# Altium footprint library QFP_Rect_65P_Side_L.PcbLib: 6 footprints
Each footprint in its own frame and in the unit in brackets; x right, y up, seen from the top. Pads: shape width x height; smd on the part's side, far side on the other; paste and mask are expansions set on the pad; w line width, h text height; cw(c..) or ccw(c..) is an arc to the next point about the centre after c.
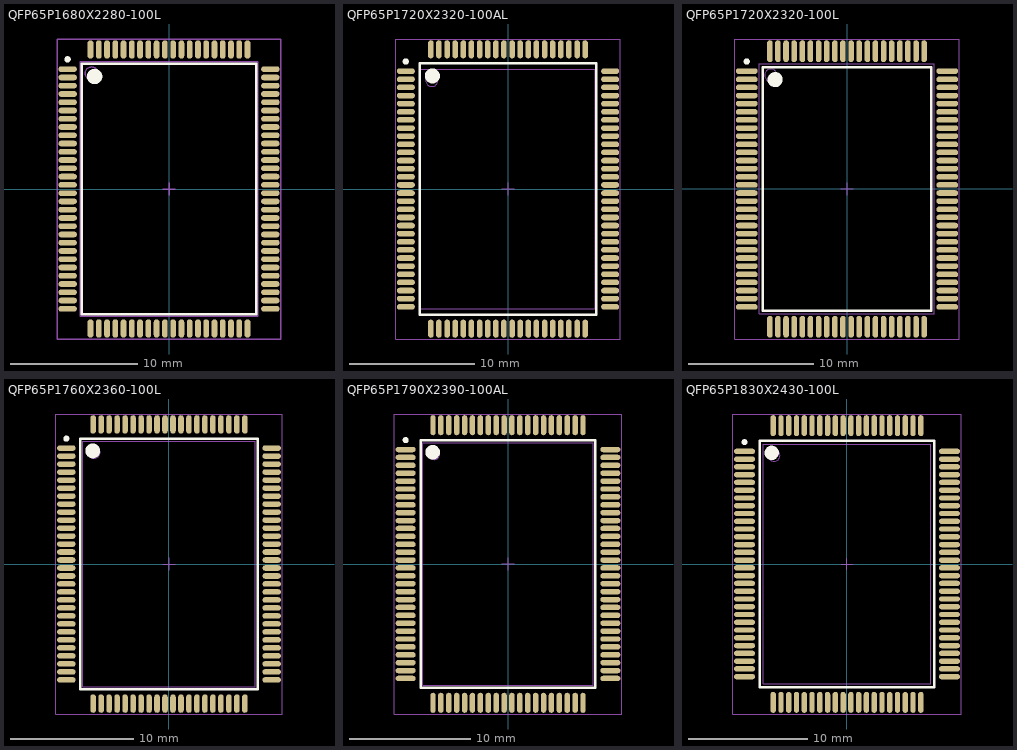
[diagram p0: the footprints below, top view; thin cyan lines are the x and y axes]

## QFP65P1680X2280-100L [mm] "100-Pin Quad Flat Pack Rectangular 0.65 mm Pitch"
height 3.05
pads (100):
  oval 1.45x0.45 smd: 1(-7.975,9.425) 2(-7.975,8.775) 3(-7.975,8.125) 4(-7.975,7.475) 5(-7.975,6.825) 6(-7.975,6.175) 7(-7.975,5.525) 8(-7.975,4.875) 9(-7.975,4.225) 10(-7.975,3.575) 11(-7.975,2.925) 12(-7.975,2.275) 13(-7.975,1.625) 14(-7.975,0.975) 15(-7.975,0.325) 16(-7.975,-0.325) 17(-7.975,-0.975) 18(-7.975,-1.625) 19(-7.975,-2.275) 20(-7.975,-2.925) 21(-7.975,-3.575) 22(-7.975,-4.225) 23(-7.975,-4.875) 24(-7.975,-5.525) 25(-7.975,-6.175) 26(-7.975,-6.825) 27(-7.975,-7.475) 28(-7.975,-8.125) 29(-7.975,-8.775) 30(-7.975,-9.425) 51(7.975,-9.425) 52(7.975,-8.775) 53(7.975,-8.125) 54(7.975,-7.475) 55(7.975,-6.825) 56(7.975,-6.175) 57(7.975,-5.525) 58(7.975,-4.875) 59(7.975,-4.225) 60(7.975,-3.575) 61(7.975,-2.925) 62(7.975,-2.275) 63(7.975,-1.625) 64(7.975,-0.975) 65(7.975,-0.325) 66(7.975,0.325) 67(7.975,0.975) 68(7.975,1.625) 69(7.975,2.275) 70(7.975,2.925) 71(7.975,3.575) 72(7.975,4.225) 73(7.975,4.875) 74(7.975,5.525) 75(7.975,6.175) 76(7.975,6.825) 77(7.975,7.475) 78(7.975,8.125) 79(7.975,8.775) 80(7.975,9.425)
  oval 0.45x1.45 smd: 31(-6.175,-10.975) 32(-5.525,-10.975) 33(-4.875,-10.975) 34(-4.225,-10.975) 35(-3.575,-10.975) 36(-2.925,-10.975) 37(-2.275,-10.975) 38(-1.625,-10.975) 39(-0.975,-10.975) 40(-0.325,-10.975) 41(0.325,-10.975) 42(0.975,-10.975) 43(1.625,-10.975) 44(2.275,-10.975) 45(2.925,-10.975) 46(3.575,-10.975) 47(4.225,-10.975) 48(4.875,-10.975) 49(5.525,-10.975) 50(6.175,-10.975) 81(6.175,10.975) 82(5.525,10.975) 83(4.875,10.975) 84(4.225,10.975) 85(3.575,10.975) 86(2.925,10.975) 87(2.275,10.975) 88(1.625,10.975) 89(0.975,10.975) 90(0.325,10.975) 91(-0.325,10.975) 92(-0.975,10.975) 93(-1.625,10.975) 94(-2.275,10.975) 95(-2.925,10.975) 96(-3.575,10.975) 97(-4.225,10.975) 98(-4.875,10.975) 99(-5.525,10.975) 100(-6.175,10.975)
Top Overlay:
  circle w0.6: c-5.85,8.85 r0.3
  circle w0.25: c-7.975,10.2 r0.125
  lines w0.2: -6.85,-9.85 6.85,-9.85 6.85,9.85 -6.85,9.85 -6.85,-9.85
Mechanical 13:
  circle w0.1: c-6.1,9.1 r0.5
  lines w0.1: -7,-10 7,-10 7,10 -7,10 -7,-10
Mechanical 15:
  lines w0.1: -0.5,0 0.5,0 ; 0,-0.5 0,0.5 ; -8.8,-11.8 8.8,-11.8 8.8,11.8 -8.8,11.8 -8.8,-11.8
3D body: height 3.05, standoff 0, extent -7,-10 7,10

## QFP65P1720X2320-100AL [mm] "QFP, 100-Leads, Body 20x14mm, Pitch 0.65mm, IPC High Density"
height 3.22
pads (100):
  oval 1.45x0.45 smd: 1(-8.175,9.425) 2(-8.175,8.775) 3(-8.175,8.125) 4(-8.175,7.475) 5(-8.175,6.825) 6(-8.175,6.175) 7(-8.175,5.525) 8(-8.175,4.875) 9(-8.175,4.225) 10(-8.175,3.575) 11(-8.175,2.925) 12(-8.175,2.275) 13(-8.175,1.625) 14(-8.175,0.975) 15(-8.175,0.325) 16(-8.175,-0.325) 17(-8.175,-0.975) 18(-8.175,-1.625) 19(-8.175,-2.275) 20(-8.175,-2.925) 21(-8.175,-3.575) 22(-8.175,-4.225) 23(-8.175,-4.875) 24(-8.175,-5.525) 25(-8.175,-6.175) 26(-8.175,-6.825) 27(-8.175,-7.475) 28(-8.175,-8.125) 29(-8.175,-8.775) 30(-8.175,-9.425) 51(8.175,-9.425) 52(8.175,-8.775) 53(8.175,-8.125) 54(8.175,-7.475) 55(8.175,-6.825) 56(8.175,-6.175) 57(8.175,-5.525) 58(8.175,-4.875) 59(8.175,-4.225) 60(8.175,-3.575) 61(8.175,-2.925) 62(8.175,-2.275) 63(8.175,-1.625) 64(8.175,-0.975) 65(8.175,-0.325) 66(8.175,0.325) 67(8.175,0.975) 68(8.175,1.625) 69(8.175,2.275) 70(8.175,2.925) 71(8.175,3.575) 72(8.175,4.225) 73(8.175,4.875) 74(8.175,5.525) 75(8.175,6.175) 76(8.175,6.825) 77(8.175,7.475) 78(8.175,8.125) 79(8.175,8.775) 80(8.175,9.425)
  oval 0.45x1.45 smd: 31(-6.175,-11.175) 32(-5.525,-11.175) 33(-4.875,-11.175) 34(-4.225,-11.175) 35(-3.575,-11.175) 36(-2.925,-11.175) 37(-2.275,-11.175) 38(-1.625,-11.175) 39(-0.975,-11.175) 40(-0.325,-11.175) 41(0.325,-11.175) 42(0.975,-11.175) 43(1.625,-11.175) 44(2.275,-11.175) 45(2.925,-11.175) 46(3.575,-11.175) 47(4.225,-11.175) 48(4.875,-11.175) 49(5.525,-11.175) 50(6.175,-11.175) 81(6.175,11.175) 82(5.525,11.175) 83(4.875,11.175) 84(4.225,11.175) 85(3.575,11.175) 86(2.925,11.175) 87(2.275,11.175) 88(1.625,11.175) 89(0.975,11.175) 90(0.325,11.175) 91(-0.325,11.175) 92(-0.975,11.175) 93(-1.625,11.175) 94(-2.275,11.175) 95(-2.925,11.175) 96(-3.575,11.175) 97(-4.225,11.175) 98(-4.875,11.175) 99(-5.525,11.175) 100(-6.175,11.175)
Top Overlay:
  circle w0.6: c-6.05,9.05 r0.3
  circle w0.25: c-8.175,10.2 r0.125
  lines w0.2: -7.05,-10.05 7.05,-10.05 7.05,10.05 -7.05,10.05 -7.05,-10.05
Mechanical 13:
  circle w0.1: c-6.1,8.7 r0.5
  lines w0.1: -7,-9.6 7,-9.6 7,9.6 -7,9.6 -7,-9.6
Mechanical 15:
  lines w0.1: -0.5,0 0.5,0 ; 0,-0.5 0,0.5 ; -9,-12 9,-12 9,12 -9,12 -9,-12
3D body: height 3.22, standoff 0, extent -7,-9.6 7,9.6

## QFP65P1720X2320-100L [mm] "QFP, 100-Leads, Body 20x14mm, Pitch 0.65mm, IPC High Density"
height 3.4
pads (100):
  oval 1.75x0.45 smd: 1(-8.025,9.425) 2(-8.025,8.775) 3(-8.025,8.125) 4(-8.025,7.475) 5(-8.025,6.825) 6(-8.025,6.175) 7(-8.025,5.525) 8(-8.025,4.875) 9(-8.025,4.225) 10(-8.025,3.575) 11(-8.025,2.925) 12(-8.025,2.275) 13(-8.025,1.625) 14(-8.025,0.975) 15(-8.025,0.325) 16(-8.025,-0.325) 17(-8.025,-0.975) 18(-8.025,-1.625) 19(-8.025,-2.275) 20(-8.025,-2.925) 21(-8.025,-3.575) 22(-8.025,-4.225) 23(-8.025,-4.875) 24(-8.025,-5.525) 25(-8.025,-6.175) 26(-8.025,-6.825) 27(-8.025,-7.475) 28(-8.025,-8.125) 29(-8.025,-8.775) 30(-8.025,-9.425) 51(8.025,-9.425) 52(8.025,-8.775) 53(8.025,-8.125) 54(8.025,-7.475) 55(8.025,-6.825) 56(8.025,-6.175) 57(8.025,-5.525) 58(8.025,-4.875) 59(8.025,-4.225) 60(8.025,-3.575) 61(8.025,-2.925) 62(8.025,-2.275) 63(8.025,-1.625) 64(8.025,-0.975) 65(8.025,-0.325) 66(8.025,0.325) 67(8.025,0.975) 68(8.025,1.625) 69(8.025,2.275) 70(8.025,2.925) 71(8.025,3.575) 72(8.025,4.225) 73(8.025,4.875) 74(8.025,5.525) 75(8.025,6.175) 76(8.025,6.825) 77(8.025,7.475) 78(8.025,8.125) 79(8.025,8.775) 80(8.025,9.425)
  oval 0.45x1.75 smd: 31(-6.175,-11.025) 32(-5.525,-11.025) 33(-4.875,-11.025) 34(-4.225,-11.025) 35(-3.575,-11.025) 36(-2.925,-11.025) 37(-2.275,-11.025) 38(-1.625,-11.025) 39(-0.975,-11.025) 40(-0.325,-11.025) 41(0.325,-11.025) 42(0.975,-11.025) 43(1.625,-11.025) 44(2.275,-11.025) 45(2.925,-11.025) 46(3.575,-11.025) 47(4.225,-11.025) 48(4.875,-11.025) 49(5.525,-11.025) 50(6.175,-11.025) 81(6.175,11.025) 82(5.525,11.025) 83(4.875,11.025) 84(4.225,11.025) 85(3.575,11.025) 86(2.925,11.025) 87(2.275,11.025) 88(1.625,11.025) 89(0.975,11.025) 90(0.325,11.025) 91(-0.325,11.025) 92(-0.975,11.025) 93(-1.625,11.025) 94(-2.275,11.025) 95(-2.925,11.025) 96(-3.575,11.025) 97(-4.225,11.025) 98(-4.875,11.025) 99(-5.525,11.025) 100(-6.175,11.025)
Top Overlay:
  circle w0.6: c-5.75,8.75 r0.3
  circle w0.25: c-8.025,10.2 r0.125
  lines w0.2: -6.75,-9.75 6.75,-9.75 6.75,9.75 -6.75,9.75 -6.75,-9.75
Mechanical 13:
  circle w0.1: c-6.1,9.1 r0.5
  lines w0.1: -7,-10 7,-10 7,10 -7,10 -7,-10
Mechanical 15:
  lines w0.1: -0.5,0 0.5,0 ; 0,-0.5 0,0.5 ; -9,-12 9,-12 9,12 -9,12 -9,-12
3D body: height 3.4, standoff 0, extent -7,-10 7,10

## QFP65P1760X2360-100L [mm] "QFP, 100-Leads, Body 20x14mm, Pitch 0.65mm, IPC High Density"
height 3.27
pads (100):
  oval 1.5x0.45 smd: 1(-8.35,9.425) 2(-8.35,8.775) 3(-8.35,8.125) 4(-8.35,7.475) 5(-8.35,6.825) 6(-8.35,6.175) 7(-8.35,5.525) 8(-8.35,4.875) 9(-8.35,4.225) 10(-8.35,3.575) 11(-8.35,2.925) 12(-8.35,2.275) 13(-8.35,1.625) 14(-8.35,0.975) 15(-8.35,0.325) 16(-8.35,-0.325) 17(-8.35,-0.975) 18(-8.35,-1.625) 19(-8.35,-2.275) 20(-8.35,-2.925) 21(-8.35,-3.575) 22(-8.35,-4.225) 23(-8.35,-4.875) 24(-8.35,-5.525) 25(-8.35,-6.175) 26(-8.35,-6.825) 27(-8.35,-7.475) 28(-8.35,-8.125) 29(-8.35,-8.775) 30(-8.35,-9.425) 51(8.35,-9.425) 52(8.35,-8.775) 53(8.35,-8.125) 54(8.35,-7.475) 55(8.35,-6.825) 56(8.35,-6.175) 57(8.35,-5.525) 58(8.35,-4.875) 59(8.35,-4.225) 60(8.35,-3.575) 61(8.35,-2.925) 62(8.35,-2.275) 63(8.35,-1.625) 64(8.35,-0.975) 65(8.35,-0.325) 66(8.35,0.325) 67(8.35,0.975) 68(8.35,1.625) 69(8.35,2.275) 70(8.35,2.925) 71(8.35,3.575) 72(8.35,4.225) 73(8.35,4.875) 74(8.35,5.525) 75(8.35,6.175) 76(8.35,6.825) 77(8.35,7.475) 78(8.35,8.125) 79(8.35,8.775) 80(8.35,9.425)
  oval 0.45x1.5 smd: 31(-6.175,-11.35) 32(-5.525,-11.35) 33(-4.875,-11.35) 34(-4.225,-11.35) 35(-3.575,-11.35) 36(-2.925,-11.35) 37(-2.275,-11.35) 38(-1.625,-11.35) 39(-0.975,-11.35) 40(-0.325,-11.35) 41(0.325,-11.35) 42(0.975,-11.35) 43(1.625,-11.35) 44(2.275,-11.35) 45(2.925,-11.35) 46(3.575,-11.35) 47(4.225,-11.35) 48(4.875,-11.35) 49(5.525,-11.35) 50(6.175,-11.35) 81(6.175,11.35) 82(5.525,11.35) 83(4.875,11.35) 84(4.225,11.35) 85(3.575,11.35) 86(2.925,11.35) 87(2.275,11.35) 88(1.625,11.35) 89(0.975,11.35) 90(0.325,11.35) 91(-0.325,11.35) 92(-0.975,11.35) 93(-1.625,11.35) 94(-2.275,11.35) 95(-2.925,11.35) 96(-3.575,11.35) 97(-4.225,11.35) 98(-4.875,11.35) 99(-5.525,11.35) 100(-6.175,11.35)
Top Overlay:
  circle w0.6: c-6.2,9.2 r0.3
  circle w0.25: c-8.35,10.2 r0.125
  lines w0.2: -7.2,-10.2 7.2,-10.2 7.2,10.2 -7.2,10.2 -7.2,-10.2
Mechanical 13:
  circle w0.1: c-6.1,9.1 r0.5
  lines w0.1: -7,-10 7,-10 7,10 -7,10 -7,-10
Mechanical 15:
  lines w0.1: -0.5,0 0.5,0 ; 0,-0.5 0,0.5 ; -9.2,-12.2 9.2,-12.2 9.2,12.2 -9.2,12.2 -9.2,-12.2
3D body: height 3.27, standoff 0, extent -7,-10 7,10

## QFP65P1790X2390-100AL [mm] "QFP, 100-Leads, Body 20x14mm, Pitch 0.65mm, IPC High Density"
height 3.3
pads (100):
  oval 1.65x0.45 smd: 1(-8.425,9.425) 2(-8.425,8.775) 3(-8.425,8.125) 4(-8.425,7.475) 5(-8.425,6.825) 6(-8.425,6.175) 7(-8.425,5.525) 8(-8.425,4.875) 9(-8.425,4.225) 10(-8.425,3.575) 11(-8.425,2.925) 12(-8.425,2.275) 13(-8.425,1.625) 14(-8.425,0.975) 15(-8.425,0.325) 16(-8.425,-0.325) 17(-8.425,-0.975) 18(-8.425,-1.625) 19(-8.425,-2.275) 20(-8.425,-2.925) 21(-8.425,-3.575) 22(-8.425,-4.225) 23(-8.425,-4.875) 24(-8.425,-5.525) 25(-8.425,-6.175) 26(-8.425,-6.825) 27(-8.425,-7.475) 28(-8.425,-8.125) 29(-8.425,-8.775) 30(-8.425,-9.425) 51(8.425,-9.425) 52(8.425,-8.775) 53(8.425,-8.125) 54(8.425,-7.475) 55(8.425,-6.825) 56(8.425,-6.175) 57(8.425,-5.525) 58(8.425,-4.875) 59(8.425,-4.225) 60(8.425,-3.575) 61(8.425,-2.925) 62(8.425,-2.275) 63(8.425,-1.625) 64(8.425,-0.975) 65(8.425,-0.325) 66(8.425,0.325) 67(8.425,0.975) 68(8.425,1.625) 69(8.425,2.275) 70(8.425,2.925) 71(8.425,3.575) 72(8.425,4.225) 73(8.425,4.875) 74(8.425,5.525) 75(8.425,6.175) 76(8.425,6.825) 77(8.425,7.475) 78(8.425,8.125) 79(8.425,8.775) 80(8.425,9.425)
  oval 0.45x1.65 smd: 31(-6.175,-11.425) 32(-5.525,-11.425) 33(-4.875,-11.425) 34(-4.225,-11.425) 35(-3.575,-11.425) 36(-2.925,-11.425) 37(-2.275,-11.425) 38(-1.625,-11.425) 39(-0.975,-11.425) 40(-0.325,-11.425) 41(0.325,-11.425) 42(0.975,-11.425) 43(1.625,-11.425) 44(2.275,-11.425) 45(2.925,-11.425) 46(3.575,-11.425) 47(4.225,-11.425) 48(4.875,-11.425) 49(5.525,-11.425) 50(6.175,-11.425) 81(6.175,11.425) 82(5.525,11.425) 83(4.875,11.425) 84(4.225,11.425) 85(3.575,11.425) 86(2.925,11.425) 87(2.275,11.425) 88(1.625,11.425) 89(0.975,11.425) 90(0.325,11.425) 91(-0.325,11.425) 92(-0.975,11.425) 93(-1.625,11.425) 94(-2.275,11.425) 95(-2.925,11.425) 96(-3.575,11.425) 97(-4.225,11.425) 98(-4.875,11.425) 99(-5.525,11.425) 100(-6.175,11.425)
Top Overlay:
  circle w0.6: c-6.2,9.2 r0.3
  circle w0.25: c-8.425,10.2 r0.125
  lines w0.2: -7.2,-10.2 7.2,-10.2 7.2,10.2 -7.2,10.2 -7.2,-10.2
Mechanical 13:
  circle w0.1: c-6.1,9.1 r0.5
  lines w0.1: -7,-10 7,-10 7,10 -7,10 -7,-10
Mechanical 15:
  lines w0.1: -0.5,0 0.5,0 ; 0,-0.5 0,0.5 ; -9.35,-12.35 9.35,-12.35 9.35,12.35 -9.35,12.35 -9.35,-12.35
3D body: height 3.3, standoff 0, extent -7,-10 7,10

## QFP65P1830X2430-100L [mm] "QFP, 100-Leads, Body 20x14mm, Pitch 0.65mm, IPC High Density"
height 2.15
pads (100):
  oval 1.75x0.45 smd: 1(-8.575,9.425) 2(-8.575,8.775) 3(-8.575,8.125) 4(-8.575,7.475) 5(-8.575,6.825) 6(-8.575,6.175) 7(-8.575,5.525) 8(-8.575,4.875) 9(-8.575,4.225) 10(-8.575,3.575) 11(-8.575,2.925) 12(-8.575,2.275) 13(-8.575,1.625) 14(-8.575,0.975) 15(-8.575,0.325) 16(-8.575,-0.325) 17(-8.575,-0.975) 18(-8.575,-1.625) 19(-8.575,-2.275) 20(-8.575,-2.925) 21(-8.575,-3.575) 22(-8.575,-4.225) 23(-8.575,-4.875) 24(-8.575,-5.525) 25(-8.575,-6.175) 26(-8.575,-6.825) 27(-8.575,-7.475) 28(-8.575,-8.125) 29(-8.575,-8.775) 30(-8.575,-9.425) 51(8.575,-9.425) 52(8.575,-8.775) 53(8.575,-8.125) 54(8.575,-7.475) 55(8.575,-6.825) 56(8.575,-6.175) 57(8.575,-5.525) 58(8.575,-4.875) 59(8.575,-4.225) 60(8.575,-3.575) 61(8.575,-2.925) 62(8.575,-2.275) 63(8.575,-1.625) 64(8.575,-0.975) 65(8.575,-0.325) 66(8.575,0.325) 67(8.575,0.975) 68(8.575,1.625) 69(8.575,2.275) 70(8.575,2.925) 71(8.575,3.575) 72(8.575,4.225) 73(8.575,4.875) 74(8.575,5.525) 75(8.575,6.175) 76(8.575,6.825) 77(8.575,7.475) 78(8.575,8.125) 79(8.575,8.775) 80(8.575,9.425)
  oval 0.45x1.75 smd: 31(-6.175,-11.575) 32(-5.525,-11.575) 33(-4.875,-11.575) 34(-4.225,-11.575) 35(-3.575,-11.575) 36(-2.925,-11.575) 37(-2.275,-11.575) 38(-1.625,-11.575) 39(-0.975,-11.575) 40(-0.325,-11.575) 41(0.325,-11.575) 42(0.975,-11.575) 43(1.625,-11.575) 44(2.275,-11.575) 45(2.925,-11.575) 46(3.575,-11.575) 47(4.225,-11.575) 48(4.875,-11.575) 49(5.525,-11.575) 50(6.175,-11.575) 81(6.175,11.575) 82(5.525,11.575) 83(4.875,11.575) 84(4.225,11.575) 85(3.575,11.575) 86(2.925,11.575) 87(2.275,11.575) 88(1.625,11.575) 89(0.975,11.575) 90(0.325,11.575) 91(-0.325,11.575) 92(-0.975,11.575) 93(-1.625,11.575) 94(-2.275,11.575) 95(-2.925,11.575) 96(-3.575,11.575) 97(-4.225,11.575) 98(-4.875,11.575) 99(-5.525,11.575) 100(-6.175,11.575)
Top Overlay:
  circle w0.6: c-6.3,9.3 r0.3
  circle w0.25: c-8.575,10.2 r0.125
  lines w0.2: -7.3,-10.3 7.3,-10.3 7.3,10.3 -7.3,10.3 -7.3,-10.3
Mechanical 13:
  circle w0.1: c-6.1,9.1 r0.5
  lines w0.1: -7,-10 7,-10 7,10 -7,10 -7,-10
Mechanical 15:
  lines w0.1: -0.5,0 0.5,0 ; 0,-0.5 0,0.5 ; -9.55,-12.55 9.55,-12.55 9.55,12.55 -9.55,12.55 -9.55,-12.55
3D body: height 2.15, standoff 0, extent -7,-10 7,10